# Altium integrated library 12P_Vert_Microfit.IntLib: 1 symbol
Pins are listed as number, name and electrical type; pins without a type are passive.

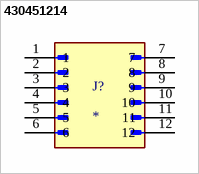
[diagram p0: symbol 430451214]

## 430451214
designator J?
MP: 430451214; Availability: Unavailable; Package: None; Value: *; Price: None
footprint MOLEX_430451214
pins: 1, 2, 3, 4, 5, 6, 7, 8, 9, 10, 11, 12